# EAGLE library part AD5933 (library thomas_library)
The AD5933 is a complete integrated network analyzer from Analog Devices
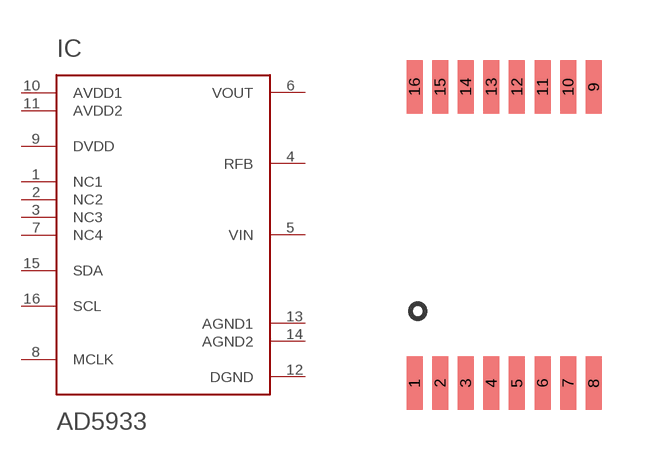
[diagram p11: symbol with the pads of SSOP_16; footprint SSOP_16]

Designator prefix IC

## AD5933  [SSOP_16]
1  NC1  nc
2  NC2  nc
3  NC3  nc
4  RFB
5  VIN
6  VOUT
7  NC4  nc
8  MCLK
9  DVDD
10  AVDD1
11  AVDD2
12  DGND
13  AGND1
14  AGND2
15  SDA
16  SCL

## Footprint SSOP_16 (pad centres in mm)
This is an SSOP-16 (RS16) from Analog Devices, with 0.44mm x 1.34mm pads, 0.64mm pad spacing, and 7.4mm diameter
smd 0.4 x 1.341: 1 -2.24,-3.708; 2 -1.6,-3.708; 3 -0.96,-3.708; 4 -0.32,-3.708; 5 0.32,-3.708; 6 0.96,-3.708; 7 1.6,-3.708; 8 2.24,-3.708; 9 2.24,3.708; 10 1.6,3.708; 11 0.96,3.708; 12 0.32,3.708; 13 -0.32,3.708; 14 -0.96,3.708; 15 -1.6,3.708; 16 -2.24,3.708